# Altium footprint library PcbLib1.PcbLib: 6 footprints
Each footprint in its own frame and in the unit in brackets; x right, y up, seen from the top. Pads: shape width x height; smd on the part's side, far side on the other; paste and mask are expansions set on the pad; w line width, h text height; cw(c..) or ccw(c..) is an arc to the next point about the centre after c.
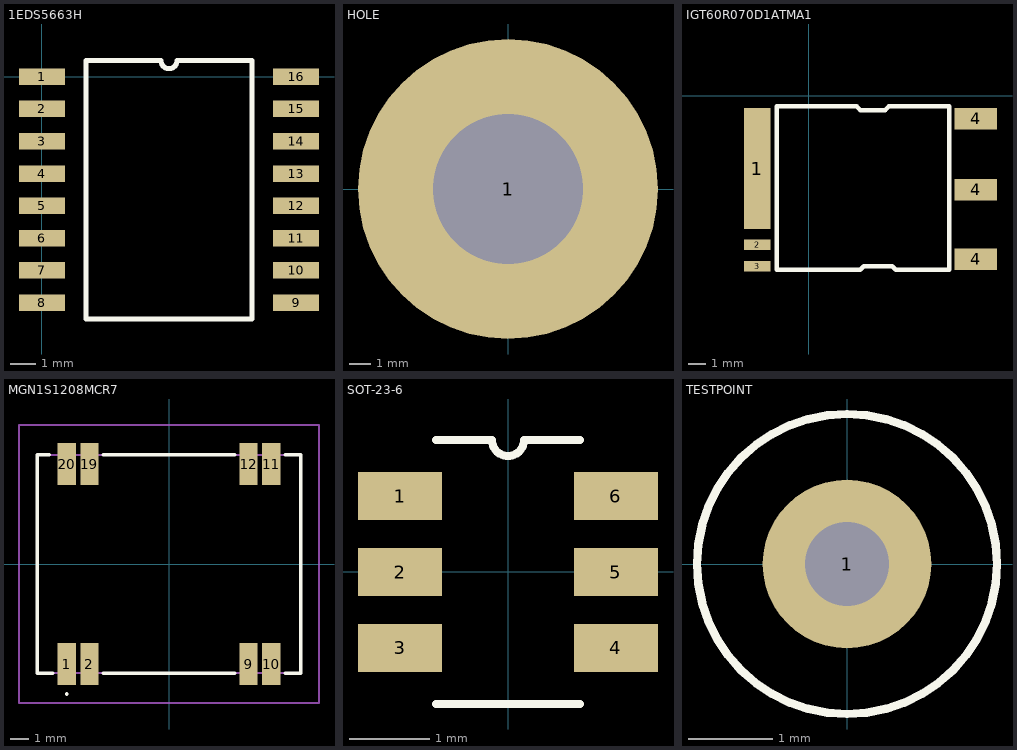
[diagram p0: the footprints below, top view; thin cyan lines are the x and y axes]

## 1EDS5663H [mm]
pads (16):
  rect 1.8x0.65 smd: 1(0,0) 2(0,-1.27) 3(0,-2.54) 4(0,-3.81) 5(0,-5.08) 6(0,-6.35) 7(0,-7.62) 8(0,-8.89) 9(10,-8.89) 10(10,-7.62) 11(10,-6.35) 12(10,-5.08) 13(10,-3.81) 14(10,-2.54) 15(10,-1.27) 16(10,0)
Top Overlay:
  lines w0.2: 1.735,-9.525 8.265,-9.525 8.265,0.635 5.318,0.635 cw(c5,0.635) 4.683,0.635 1.735,0.635 1.735,-9.525

## HOLE [mm]
pads (1):
  round 14 hole 7: 1(0,0)

## IGT60R070D1ATMA1 [mm]
pads (6):
  rect 1.5x6.8 smd: 1(-2.9,-4.1)
  rect 1.5x0.6 smd: 2(-2.9,-8.4) 3(-2.9,-9.6)
  rect 2.4x1.2 smd: 4(9.4,-9.2) 4(9.4,-5.3) 4(9.4,-1.3)
Top Overlay:
  lines w0.254: 2.7,-0.6 -1.8,-0.6 -1.8,-9.8 2.9,-9.8 3.1,-9.6 4.7,-9.6 4.9,-9.8 7.9,-9.8 7.9,-0.6 4.5,-0.6 4.3,-0.8 2.9,-0.8 2.7,-0.6 ; 2.7,-0.6 2.7,-0.6

## MGN1S1208MCR7 [mm]
pads (8):
  rect 1x2.3 smd: 1(-5.625,-5.5) 2(-4.375,-5.5) 9(4.375,-5.5) 10(5.625,-5.5) 11(5.625,5.5) 12(4.375,5.5) 19(-4.375,5.5) 20(-5.625,5.5)
Top Overlay:
  lines w0.1: -5.625,-7.2 cw(c-5.625,-7.15) -5.625,-7.1 cw(c-5.625,-7.15) -5.625,-7.2
  lines w0.2: -6.6,6 -7.25,6 -7.25,-6 -6.4,-6 ; -3.6,-6 3.6,-6 ; -3.6,6 3.6,6 ; 6.4,-6 7.25,-6 7.25,6 6.4,6
Mechanical 15:
  lines w0.1: -7.25,-6 -7.25,6 7.25,6 7.25,-6 -7.25,-6
Mechanical 20:
  lines w0.1: -8.25,-7.65 -8.25,7.65 8.25,7.65 8.25,-7.65 -8.25,-7.65

## SOT-23-6 [mm] "Small Outline Transistor, 6 Pins, Pin Pitch  0.95mm"
height 1.45
pads (6):
  rect 1.05x0.6 smd mask+0.07: 1(-1.35,0.95) 2(-1.35,0) 3(-1.35,-0.95) 4(1.35,-0.95) 5(1.35,0) 6(1.35,0.95)
Top Overlay:
  lines w0.1: -0.9,-1.65 0.9,-1.65 ; -0.9,1.65 -0.2,1.65 ccw(c0,1.65) 0.2,1.65 0.9,1.65
3D body "SOT-23-6.SLDPRT": height 1.45, standoff 0, extent -1.4,-1.45 1.4,1.45

## TESTPOINT [mm]
pads (1):
  round 2 hole 1: 1(0,0)
Top Overlay:
  circle w0.1: c0,0 r1.778
3D body "Testpoint.SLDPRT": height 4.44, standoff -4.43, extent -1.584,-1.587 1.584,1.587